# Altium footprint library POWER-INDUCTOR-8095.PcbLib: 1 footprints
Each footprint in its own frame and in the unit in brackets; x right, y up, seen from the top. Pads: shape width x height; smd on the part's side, far side on the other; paste and mask are expansions set on the pad; w line width, h text height; cw(c..) or ccw(c..) is an arc to the next point about the centre after c.
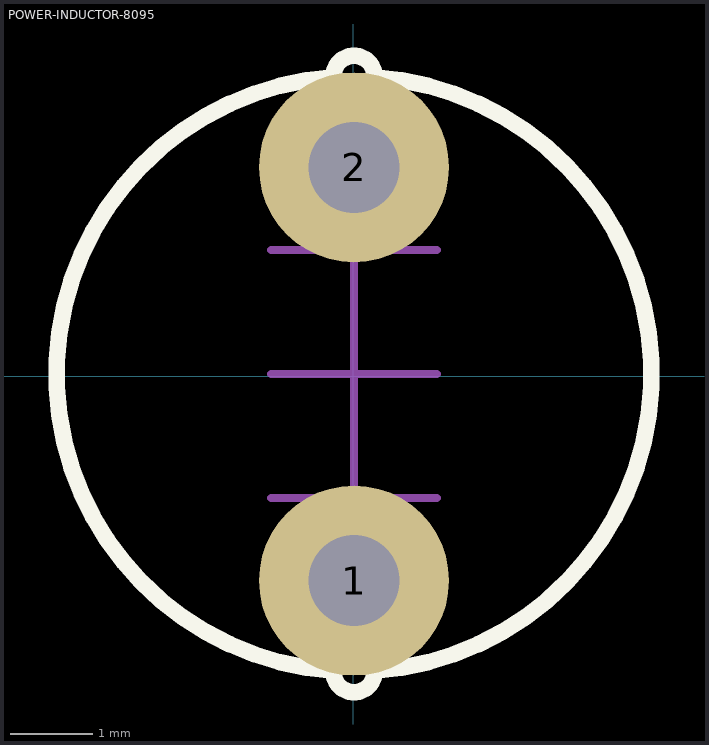
[diagram p0: the footprint, top view; thin cyan lines are the x and y axes]

## POWER-INDUCTOR-8095 [mm]
pads (2):
  round 2.3 hole 1.1: 1(0.006,-2.474) 2(0.006,2.526)
Top Overlay:
  lines w0.2: -0.243,-3.566 ccw(c0.006,-3.575) 0.256,-3.566 ccw(c0.006,0.025) 0.256,3.617 ccw(c0.006,3.625) -0.243,3.617 ccw(c0.006,0.025) -0.243,-3.566
Mechanical 8:
  lines w0.1: -0.994,-1.475 0.006,-1.475 ; -0.994,0.025 0.006,0.025 ; -0.994,1.525 0.006,1.525 ; 0.006,-2.475 0.006,-1.475 ; 0.006,-0.975 0.006,0.025 ; 0.006,-0.475 0.006,-1.475 ; 0.006,0.525 0.006,1.525 ; 0.006,1.025 0.006,0.025 ; 0.006,2.525 0.006,1.525 ; 1.006,-1.475 0.006,-1.475 ; 1.006,0.025 0.006,0.025 ; 1.006,1.525 0.006,1.525
Mechanical 14:
  lines w0.1: -0.243,-3.566 ccw(c0.006,-3.575) 0.256,-3.566 ccw(c0.006,0.025) 0.256,3.617 ccw(c0.006,3.625) -0.243,3.617 ccw(c0.006,0.025) -0.243,-3.566
3D body "WE-TI-8095-7447720xxx_rev1.stp": height 9.6, standoff -4.9, extent -5.515,-5.515 5.515,5.515